# Altium integrated library Analog Devices Data Converters Analog-to-Digital Converters.IntLib: 2400 symbols (part 174 of 338)
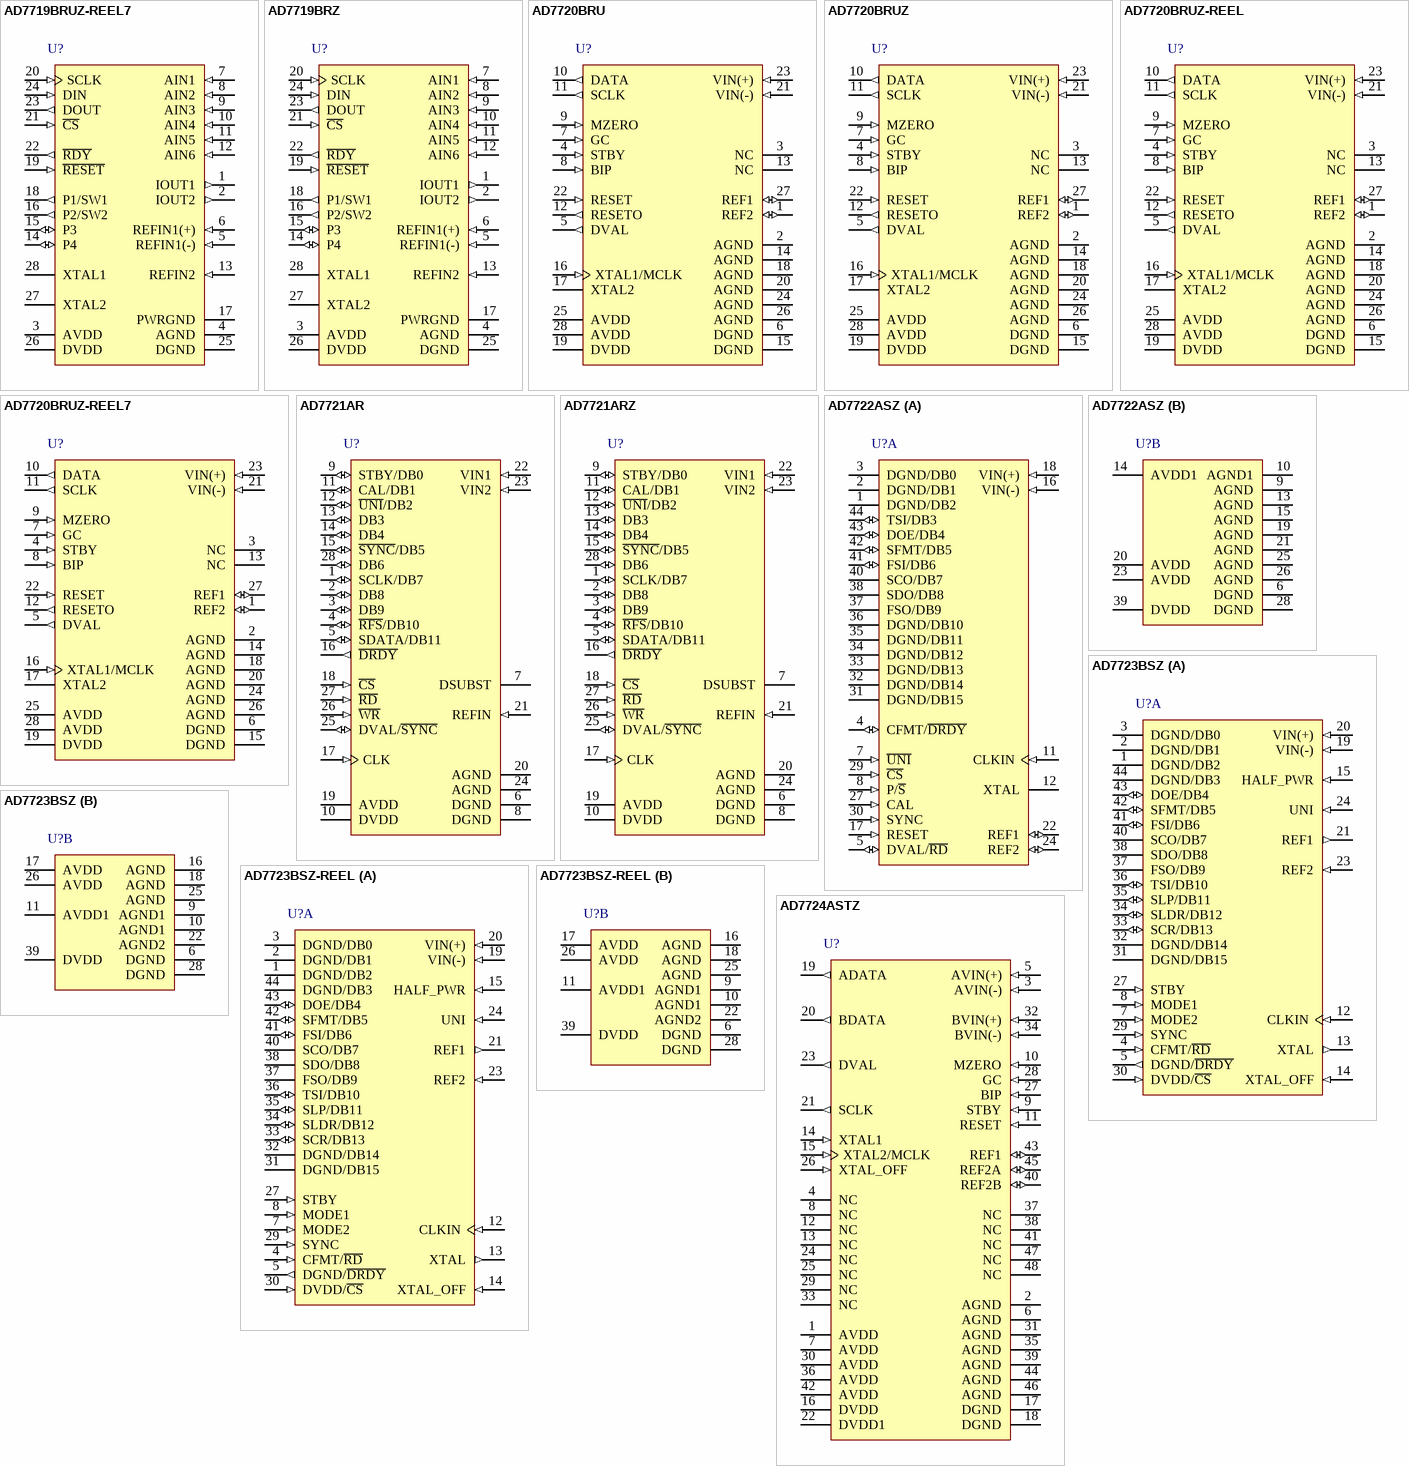
[diagram p352: symbols AD7719BRUZ-REEL7 to AD7724ASTZ]

## AD7721AR
designator U?
Single 16-Bit Sigma-Delta Analog-to-Digital Converter with Parallel, Serial Interface, CMOS, 468.75KSPS, -40 to +85 degC, RW-28, Tube; Part Number: AD7721; Manufacturer: Analog Devices; Resolution (Bits): 16; Channels: 1; Interface: Par, Ser; DatasheetVersion: Rev.A; PackageVersion: 060706-A; PackageReference: RW-28; PackageDescription: 28-Lead Standard Small Outline Package [SOIC_W]; Throughput Rate (SPS): 468.75K; RoHS: N; Packing: Tube; Mounting Technology: Surface Mount; Code_JEDEC: MS-013-AE; ComponentLink1Description: Manufacturer URL; ComponentLink1URL: http://www.analog.com/en/index.html; ComponentLink2Description: Datasheet; ComponentLink2URL: http://www.analog.com/static/imported-files/data_sheets/AD7721.pdf; ComponentLink3Description: Package Specification; ComponentLink3URL: http://www.analog.com/static/imported-files/packages/35833120341221RW_28.pdf; ComponentLink4Description: Product URL; ComponentLink4URL: http://www.analog.com/en/analog-to-digital-converters/ad-converters/ad7721/products/product.html
footprint RW-28_N (SOIC, 28-Leads, Body 17.9x7.5mm, Pitch 1.27mm, IPC Medium Density)
footprint RW-28_L (SOIC, 28-Leads, Body 17.9x7.5mm, Pitch 1.27mm, IPC High Density)
footprint RW-28_M (SOIC, 28-Leads, Body 17.9x7.5mm, Pitch 1.27mm, IPC Low Density)
pins: 1 SCLK/DB7 (io) "Serial Clock. Logic Output. The internal digital clock is provided as an output on this pin. Data is output from the AD7721 on the rising edge of SCLK and is valid on the falling edge of SCLK.These pins are both data outputs (See Datasheet)", 2 DB8 (io) "This is a test mode pin. This pin must be tied to DGND. This pin is both data outputs and control register inputs. Output data is placed on these pins by taking R\D\ and C\S\ low. Data on this pin is read into the control (See Datasheet)", 3 DB9 (io) "This is a test mode pin. This pin must be tied to DGND. This pin is both data output and control register input. Output data is placed on these pins by taking R\D\ and C\S\ low. Data on this pin is read into the control (See Datasheet)", 4 ~{RFS}/DB10 (io) "Receive Frame Synchronization. Active low logic input. This is a logic input with R\F\S\ provided by connecting this input to D\R\D\Y\. When RFS is high, SDATA is high impedance. This pin is both data output and control (See Datasheet)", 5 SDATA/DB11 (io) "Serial Data Output. Output serial data becomes active after R\F\S\ goes low. Sixteen bits of data are clocked out starting with the MSB. Serial data is clocked out on the rising edge of SCLK and is valid on the subsequent (See Datasheet)", 6 DGND (power) "Ground reference point for digital circuitry. DGND must be connected via its own short path to AGND (Pin 24).", 7 DSUBST (power) "This is the substrate connection for digital circuits. It must be connected via its own short path to AGND (Pin 24).", 8 DGND (power) "Ground reference point for digital circuitry. DGND must be connected via its own short path to AGND (Pin 24).", 9 STBY/DB0 (io) "Standby Mode Logic Input. A logic high on this pin selects standby mode. This pin is both data output and control register input. Output data is placed on these pins by taking R\D\ and C\S\ low. Data on this pin is read into (See Datasheet)", 10 DVDD (power) "Digital Supply Voltage, +5 V +/- 5%.", 11 CAL/DB1 (io) "Calibration Mode Logic Input. CAL must go high for at least one clock cycle to initiate a calibration cycle. This pin is both data output and control register input. Output data is placed on these pins by taking R\D\ and (See Datasheet)", 12 ~{UNI}/DB2 (io) "Analog Input Range Select, Logic Input. A logic low on this input selects unipolar mode. A logic high selects bipolar mode. This pin is both data output and control register input. Output data is placed on these pins by (See Datasheet)", 13 DB3 (io) "This is a test mode pin. This pin must be tied to DGND. This pin is both data output and control register input. Output data is placed on these pins by taking R\D\ and C\S\ low. Data on this pin is read into the control (See Datasheet)", 14 DB4 (io) "This is a test mode pin. This pin must be tied to DGND. This pin is both data output and control register input. Output data is placed on these pins by taking R\D\ and C\S\ low. Data on this pin is read into the control (See Datasheet)", 15 ~{SYNC}/DB5 (io) "Synchronization Logic Input. A rising edge on S\Y\N\C\ starts the synchronization cycle. S\Y\N\C\ must be pulsed low for at least one clock cycle to initiate a synchronization cycle.This pin is both data output and control (See Datasheet)", 16 ~{DRDY} (out) "In the serial interface mode, a rising edge on D\R\D\Y\ indicates that new data is available to be read from the interface. During a synchronization or calibration cycle, D\R\D\Y\ remains low until valid data is available.In (See Datasheet)", 17 CLK (in) "CMOS Logic Clock Input. The AD7721 operates with an external clock which is connected to the CLK pin. The modulator samples the analog input on both phases of the clock, increasing the sampling rate to 20 MHz (CLK = 10 MHz) (See Datasheet)", 18 ~{CS} (in) "To select the serial interface mode of operation, the AD7721 must be powered up with C\S\, R\D\ and W\R\ all tied to DGND. After two clock cycles, the AD7721 switches into serial mode. These pins must remain low during (See Datasheet)", 19 AVDD (power) "Analog Positive Supply Voltage, +5 V +/- 5%.", 20 AGND (power) "Ground reference point for analog circuitry.", 21 REFIN (in) "Reference Input. The AD7721 operates with an external reference, of value 2.5 V nominal. A suitable reference for operation with the AD7721 is the AD780. A 100 nF decoupling capacitor is required between REFIN and AGND.", 22 VIN1 (in) "Analog Input. In unipolar operation, the analog input range on VIN1 is VIN2 to (VIN2 + VREFIN); for bipolar operation, the analog input range on VIN1 is (VIN2 +/- VREFIN/2). The absolute analog input range must lie between 0 (See Datasheet)", 23 VIN2 (in) "Analog Input. In unipolar operation, the analog input range on VIN1 is VIN2 to (VIN2 + VREFIN); for bipolar operation, the analog input range on VIN1 is (VIN2 +/- VREFIN/2). The absolute analog input range must lie between 0 (See Datasheet)", 24 AGND (power) "Ground reference point for analog circuitry.", 25 DVAL/~{SYNC} (io) "Data Valid Digital Output. In serial mode, this pin is a dedicated data valid pin.The function of this pin is determined by the state of bit DB3 in the control register. Writing a logic zero to bit DB3 will program this pin (See Datasheet)", 26 ~{WR} (in) "To select the serial interface mode of operation, the AD7721 must be powered up with C\S\, R\D\ and W\R\ all tied to DGND. After two clock cycles, the AD7721 switches into serial mode. These pins must remain low during (See Datasheet)", 27 ~{RD} (in) "To select the serial interface mode of operation, the AD7721 must be powered up with C\S\, R\D\ and W\R\ all tied to DGND. After two clock cycles, the AD7721 switches into serial mode. These pins must remain low during (See Datasheet)", 28 DB6 (io) "This is a test mode pin. This pin must be tied to DGND. This pin is both data output and control register input. Output data is placed on these pins by taking R\D\ and C\S\ low. Data on this pin is read into the control (See Datasheet)"